# Altium schematic symbol library Optoisolators.SchLib: 1 symbol
Pins are listed as number, name and electrical type; pins without a type are passive.

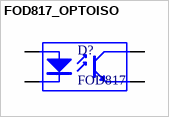
[diagram p0: symbol FOD817_OPTOISO]

## FOD817_OPTOISO
designator D?, comment FOD817
Optoisolator; PartNumber: FOD817
footprint FOD817_SMT_N (SOP, 4-Leads, Body 4.60x6.50mm, Pitch 2.54mm, IPC Medium Density)
pins: 1 A "Anode", 2 K "Cathode", 3 E "Emitter", 4 C "Collector"